# Altium footprint library issi-packages.PcbLib: 4 footprints
Each footprint in its own frame and in the unit in brackets; x right, y up, seen from the top. Pads: shape width x height; smd on the part's side, far side on the other; paste and mask are expansions set on the pad; w line width, h text height; cw(c..) or ccw(c..) is an arc to the next point about the centre after c.
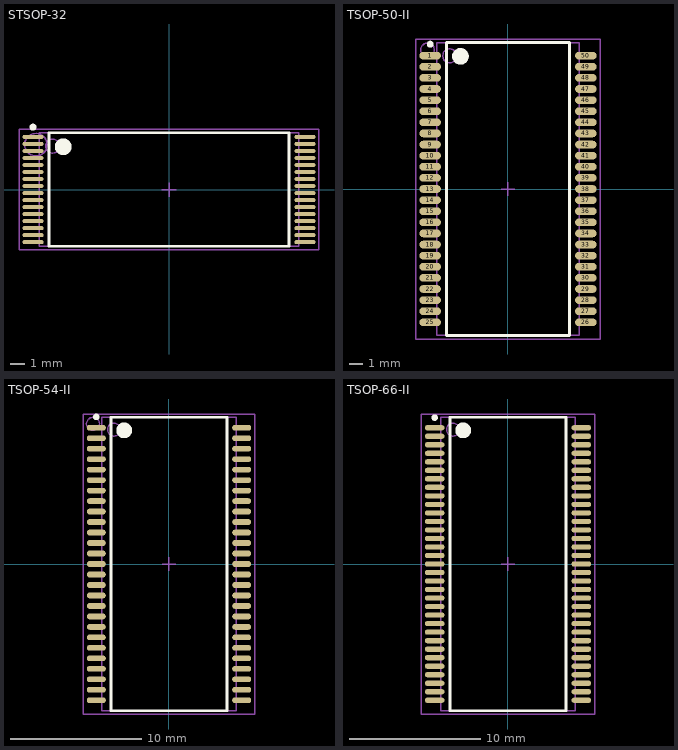
[diagram p0: the footprints below, top view; thin cyan lines are the x and y axes]

## STSOP-32 [mm] "TSSOP, 32-Leads, Body 8.1x18.5mm (max), Pitch 0.50mm, IPC Medium Density"
height 1.2
pads (32):
  oval 1.5x0.3 smd: 1(-9.7,3.75) 2(-9.7,3.25) 3(-9.7,2.75) 4(-9.7,2.25) 5(-9.7,1.75) 6(-9.7,1.25) 7(-9.7,0.75) 8(-9.7,0.25) 9(-9.7,-0.25) 10(-9.7,-0.75) 11(-9.7,-1.25) 12(-9.7,-1.75) 13(-9.7,-2.25) 14(-9.7,-2.75) 15(-9.7,-3.25) 16(-9.7,-3.75) 17(9.7,-3.75) 18(9.7,-3.25) 19(9.7,-2.75) 20(9.7,-2.25) 21(9.7,-1.75) 22(9.7,-1.25) 23(9.7,-0.75) 24(9.7,-0.25) 25(9.7,0.25) 26(9.7,0.75) 27(9.7,1.25) 28(9.7,1.75) 29(9.7,2.25) 30(9.7,2.75) 31(9.7,3.25) 32(9.7,3.75)
Top Overlay:
  circle w0.25: c-9.7,4.45 r0.125
  circle w0.6: c-7.55,3.05 r0.3
  lines w0.2: -8.55,-4.05 -8.55,4.05 8.55,4.05 8.55,-4.05 -8.55,-4.05
Mechanical 13:
  circle w0.1: c-8.3,3.1 r0.5
  lines w0.1: -0.5,0 0.5,0 ; 0,-0.5 0,0.5 ; -9.25,-4.05 -9.25,4.05 9.25,4.05 9.25,-4.05 -9.25,-4.05
Mechanical 15:
  circle w0.1: c-9.5,3.2 r0.8
  lines w0.1: -10.7,-4.3 -10.7,4.3 10.7,4.3 10.7,-4.3 -10.7,-4.3
  text ".Designator" at -2.286,-0.127 h0.8
3D body: height 1.42, standoff 0, extent -10.028,-4.05 10.028,4.05

## TSOP-50-II [mm] "TSOP, 50-Leads, Body 21.1x10.3mm (max), Pitch 0.80mm, IPC Medium Density"
height 1.2
pads (50):
  oval 1.55x0.55 smd: 1(-5.6,9.6) 2(-5.6,8.8) 3(-5.6,8) 4(-5.6,7.2) 5(-5.6,6.4) 6(-5.6,5.6) 7(-5.6,4.8) 8(-5.6,4) 9(-5.6,3.2) 10(-5.6,2.4) 11(-5.6,1.6) 12(-5.6,0.8) 13(-5.6,0) 14(-5.6,-0.8) 15(-5.6,-1.6) 16(-5.6,-2.4) 17(-5.6,-3.2) 18(-5.6,-4) 19(-5.6,-4.8) 20(-5.6,-5.6) 21(-5.6,-6.4) 22(-5.6,-7.2) 23(-5.6,-8) 24(-5.6,-8.8) 25(-5.6,-9.6) 26(5.6,-9.6) 27(5.6,-8.8) 28(5.6,-8) 29(5.6,-7.2) 30(5.6,-6.4) 31(5.6,-5.6) 32(5.6,-4.8) 33(5.6,-4) 34(5.6,-3.2) 35(5.6,-2.4) 36(5.6,-1.6) 37(5.6,-0.8) 38(5.6,0) 39(5.6,0.8) 40(5.6,1.6) 41(5.6,2.4) 42(5.6,3.2) 43(5.6,4) 44(5.6,4.8) 45(5.6,5.6) 46(5.6,6.4) 47(5.6,7.2) 48(5.6,8) 49(5.6,8.8) 50(5.6,9.6)
Top Overlay:
  circle w0.25: c-5.6,10.425 r0.125
  circle w0.6: c-3.425,9.55 r0.3
  lines w0.2: -4.425,-10.55 -4.425,10.55 4.425,10.55 4.425,-10.55 -4.425,-10.55
Mechanical 13:
  circle w0.1: c-4.195,9.59 r0.5
  lines w0.1: -0.5,0 0.5,0 ; 0,-0.5 0,0.5 ; -5.145,-10.54 -5.145,10.54 5.145,10.54 5.145,-10.54 -5.145,-10.54
Mechanical 15:
  circle w0.1: c-5.8,10 r0.5
  lines w0.1: -6.625,-10.8 -6.625,10.8 6.625,10.8 6.625,-10.8 -6.625,-10.8
  text ".Designator" at -2.286,-0.127 h0.8
3D body: height 1.35, standoff 0, extent -5.908,-10.525 5.908,10.525

## TSOP-54-II [mm] "TSOP, 54-Leads, Body 22.4x10.3mm (max), Pitch 0.80mm, IPC Medium Density"
height 1.2
pads (54):
  oval 1.45x0.44 smd: 1(-5.55,10.4) 2(-5.55,9.6) 3(-5.55,8.8) 4(-5.55,8) 5(-5.55,7.2) 6(-5.55,6.4) 7(-5.55,5.6) 8(-5.55,4.8) 9(-5.55,4) 10(-5.55,3.2) 11(-5.55,2.4) 12(-5.55,1.6) 13(-5.55,0.8) 14(-5.55,0) 15(-5.55,-0.8) 16(-5.55,-1.6) 17(-5.55,-2.4) 18(-5.55,-3.2) 19(-5.55,-4) 20(-5.55,-4.8) 21(-5.55,-5.6) 22(-5.55,-6.4) 23(-5.55,-7.2) 24(-5.55,-8) 25(-5.55,-8.8) 26(-5.55,-9.6) 27(-5.55,-10.4) 28(5.55,-10.4) 29(5.55,-9.6) 30(5.55,-8.8) 31(5.55,-8) 32(5.55,-7.2) 33(5.55,-6.4) 34(5.55,-5.6) 35(5.55,-4.8) 36(5.55,-4) 37(5.55,-3.2) 38(5.55,-2.4) 39(5.55,-1.6) 40(5.55,-0.8) 41(5.55,0) 42(5.55,0.8) 43(5.55,1.6) 44(5.55,2.4) 45(5.55,3.2) 46(5.55,4) 47(5.55,4.8) 48(5.55,5.6) 49(5.55,6.4) 50(5.55,7.2) 51(5.55,8) 52(5.55,8.8) 53(5.55,9.6) 54(5.55,10.4)
Top Overlay:
  circle w0.6: c-3.425,10.2 r0.3
  circle w0.25: c-5.55,11.225 r0.125
  lines w0.2: -4.425,-11.2 4.425,-11.2 4.425,11.2 -4.425,11.2 -4.425,-11.2
Mechanical 13:
  circle w0.1: c-4.195,10.26 r0.5
  lines w0.1: -0.5,0 0.5,0 ; 0,-0.5 0,0.5 ; -5.145,-11.21 5.145,-11.21 5.145,11.21 -5.145,11.21 -5.145,-11.21
Mechanical 15:
  circle w0.1: c-5.8,10.7 r0.5
  lines w0.1: -6.55,-11.45 6.55,-11.45 6.55,11.45 -6.55,11.45 -6.55,-11.45
  text ".Designator" at -2.286,-0.127 h0.8
3D body: height 1.1, standoff 0, extent -5.88,-11.259 5.88,11.258

## TSOP-66-II [mm] "TSOP, 66-Leads, Body 22.4x10.3mm (max), Pitch 0.65mm, IPC Medium Density"
height 1.2
pads (66):
  oval 1.5x0.4 smd: 1(-5.6,10.4) 2(-5.6,9.75) 3(-5.6,9.1) 4(-5.6,8.45) 5(-5.6,7.8) 6(-5.6,7.15) 7(-5.6,6.5) 8(-5.6,5.85) 9(-5.6,5.2) 10(-5.6,4.55) 11(-5.6,3.9) 12(-5.6,3.25) 13(-5.6,2.6) 14(-5.6,1.95) 15(-5.6,1.3) 16(-5.6,0.65) 17(-5.6,0) 18(-5.6,-0.65) 19(-5.6,-1.3) 20(-5.6,-1.95) 21(-5.6,-2.6) 22(-5.6,-3.25) 23(-5.6,-3.9) 24(-5.6,-4.55) 25(-5.6,-5.2) 26(-5.6,-5.85) 27(-5.6,-6.5) 28(-5.6,-7.15) 29(-5.6,-7.8) 30(-5.6,-8.45) 31(-5.6,-9.1) 32(-5.6,-9.75) 33(-5.6,-10.4) 34(5.6,-10.4) 35(5.6,-9.75) 36(5.6,-9.1) 37(5.6,-8.45) 38(5.6,-7.8) 39(5.6,-7.15) 40(5.6,-6.5) 41(5.6,-5.85) 42(5.6,-5.2) 43(5.6,-4.55) 44(5.6,-3.9) 45(5.6,-3.25) 46(5.6,-2.6) 47(5.6,-1.95) 48(5.6,-1.3) 49(5.6,-0.65) 50(5.6,0) 51(5.6,0.65) 52(5.6,1.3) 53(5.6,1.95) 54(5.6,2.6) 55(5.6,3.25) 56(5.6,3.9) 57(5.6,4.55) 58(5.6,5.2) 59(5.6,5.85) 60(5.6,6.5) 61(5.6,7.15) 62(5.6,7.8) 63(5.6,8.45) 64(5.6,9.1) 65(5.6,9.75) 66(5.6,10.4)
Top Overlay:
  circle w0.25: c-5.6,11.175 r0.125
  circle w0.6: c-3.425,10.2 r0.3
  lines w0.2: -4.425,-11.2 -4.425,11.2 4.425,11.2 4.425,-11.2 -4.425,-11.2
Mechanical 13:
  circle w0.1: c-4.195,10.26 r0.5
  lines w0.1: -0.5,0 0.5,0 ; 0,-0.5 0,0.5 ; -5.145,-11.21 -5.145,11.21 5.145,11.21 5.145,-11.21 -5.145,-11.21
Mechanical 15:
  lines w0.1: -6.625,-11.45 -6.625,11.45 6.625,11.45 6.625,-11.45 -6.625,-11.45
  text ".Designator" at -3,-0.2 h0.8
3D body: height 1.2, standoff 0, extent -5.88,-11.11 5.88,11.11